# Altium footprint library sar20-motor-driver.PcbLib: 18 footprints (part 1 of 2)
Each footprint in its own frame and in the unit in brackets; x right, y up, seen from the top. Pads: shape width x height; smd on the part's side, far side on the other; paste and mask are expansions set on the pad; w line width, h text height; cw(c..) or ccw(c..) is an arc to the next point about the centre after c.
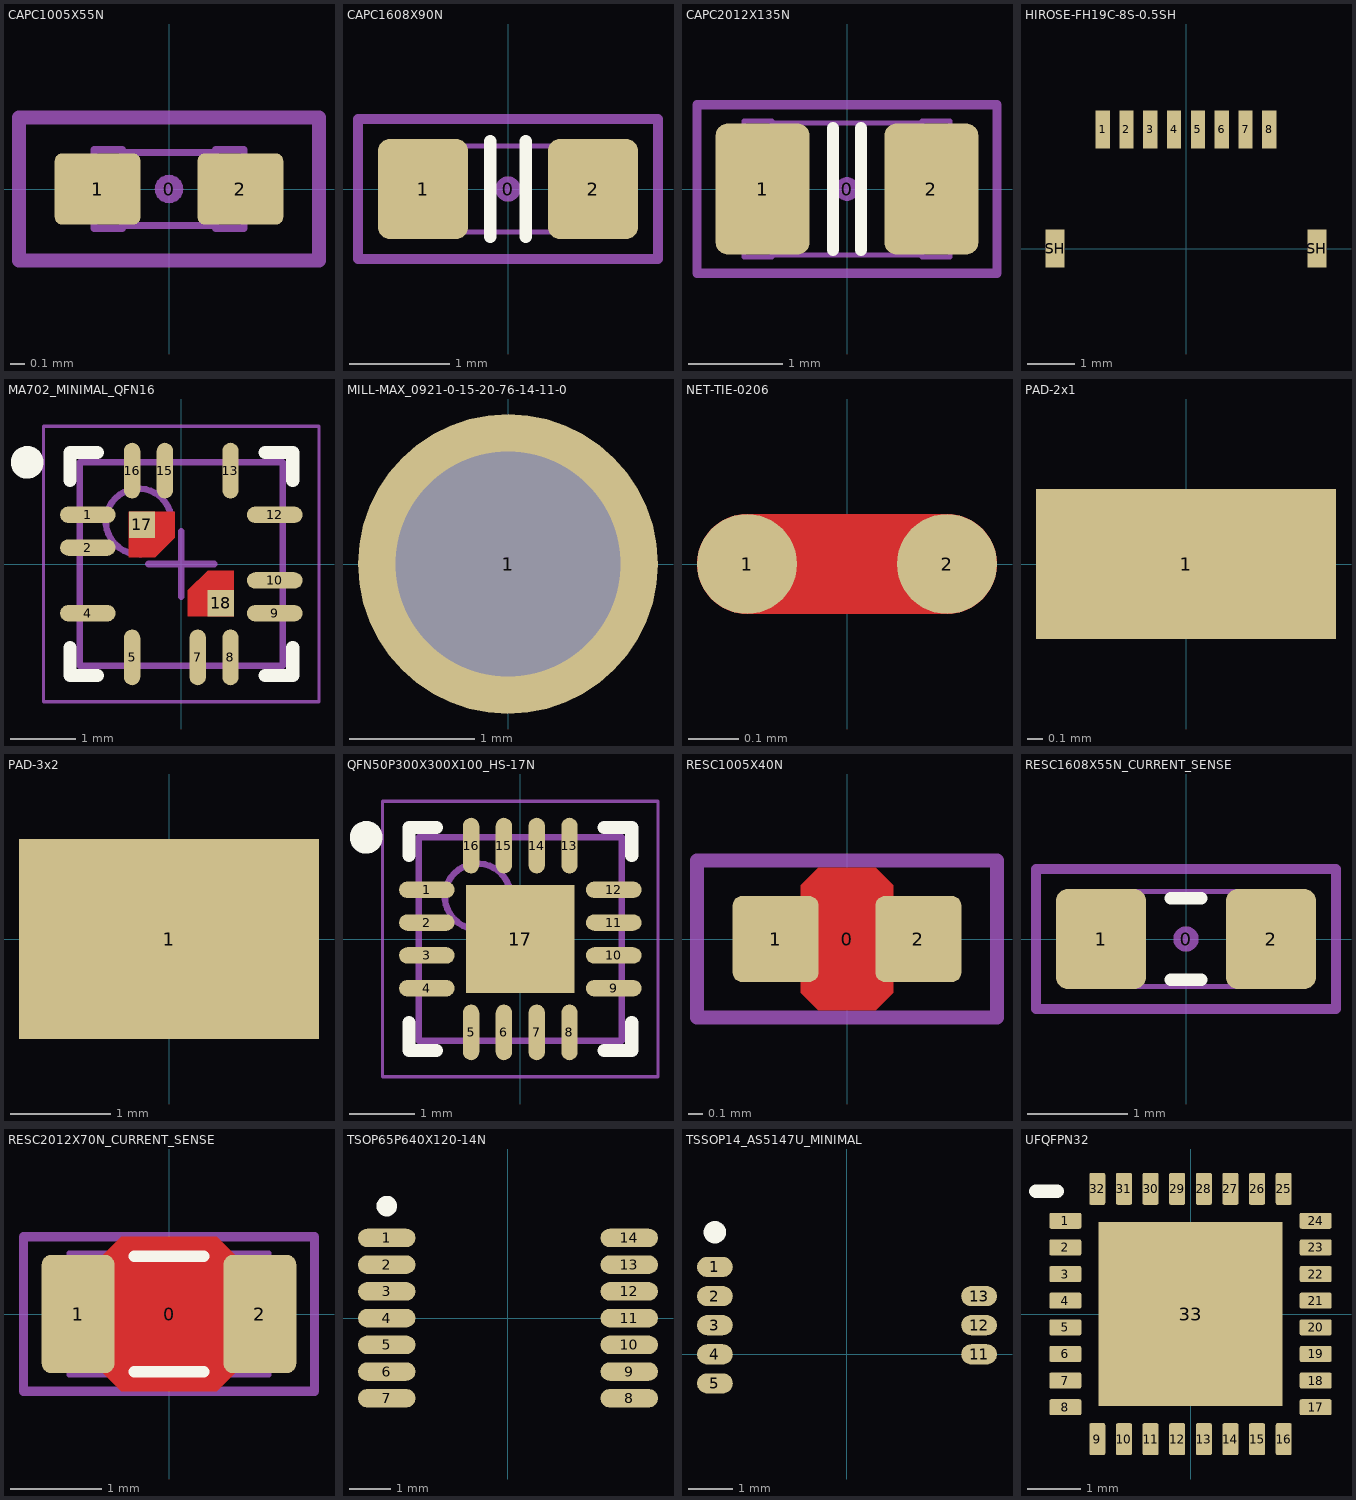
[diagram p0: the footprints below, top view; thin cyan lines are the x and y axes]

## CAPC1005X55N [mm] "Chip Capacitor, Body 1.0x0.5mm, EIA 0402, IPC Medium Density"
height 0.55
pads (3):
  round 0.2 on Mech15: 0(0,0)
  rrect20% 0.6x0.5 smd: 1(-0.5,0) 2(0.5,0)
Top 3D Body:
  lines w0.05: -0.325,-0.255 0.325,-0.255 ; -0.325,0.255 0.325,0.255 ; -0.525,-0.275 -0.325,-0.275 -0.325,0.275 -0.525,0.275 -0.525,-0.275 ; 0.325,-0.275 0.325,0.275 0.525,0.275 0.525,-0.275 0.325,-0.275
Mechanical 15:
  lines w0.1: -1.05,-0.5 1.05,-0.5 1.05,0.5 -1.05,0.5 -1.05,-0.5
3D body "CAP 0402 (1005 metric).STEP": height 0.55, standoff 0, extent -0.525,-0.275 0.525,0.275

## CAPC1608X90N [mm] "Chip Capacitor, Body 1.6x0.8mm, EIA 0603, IPC Medium Density"
height 0.9
pads (3):
  round 0.254 on Mech15: 0(0,0)
  rrect25% 0.9x1 smd: 1(-0.85,0) 2(0.85,0)
Top Overlay:
  lines w0.127: -0.178,-0.476 -0.178,0.476 ; 0.178,-0.476 0.178,0.476
Top 3D Body:
  lines w0.05: -0.55,-0.43 0.55,-0.43 ; -0.55,0.43 0.55,0.43 ; -0.85,-0.45 -0.55,-0.45 -0.55,0.45 -0.85,0.45 -0.85,-0.45 ; 0.55,-0.45 0.85,-0.45 0.85,0.45 0.55,0.45 0.55,-0.45
Mechanical 15:
  lines w0.1: -1.5,-0.7 1.5,-0.7 1.5,0.7 -1.5,0.7 -1.5,-0.7
3D body "CAP_0603.STEP": height 0.89, standoff -0.01, extent -0.85,-0.45 0.85,0.45

## CAPC2012X135N [mm] "Chip Capacitor, Body 2.0x1.2mm, EIA 0805, IPC Medium Density"
height 1.35
pads (3):
  round 0.254 on Mech15: 0(0,0)
  rrect25% 1x1.4 smd: 1(-0.9,0) 2(0.9,0)
Top Overlay:
  lines w0.127: -0.15,-0.651 -0.15,0.651 ; 0.15,-0.651 0.15,0.651
Top 3D Body:
  lines w0.05: -0.8,-0.705 0.8,-0.705 ; -0.8,0.705 0.8,0.705 ; -1.1,-0.725 -0.8,-0.725 -0.8,0.725 -1.1,0.725 -1.1,-0.725 ; 0.8,-0.725 0.8,0.725 1.1,0.725 1.1,-0.725 0.8,-0.725
Mechanical 15:
  lines w0.1: -1.6,-0.9 1.6,-0.9 1.6,0.9 -1.6,0.9 -1.6,-0.9
3D body "CAP_0805.STEP": height 1.34, standoff -0.01, extent -1.1,-0.725 1.1,0.725

## HIROSE-FH19C-8S-0.5SH [mm]
pads (10):
  rect 0.3x0.8 smd paste+0 mask+0.102: 1(-1.75,2.5) 2(-1.25,2.5) 3(-0.75,2.5) 4(-0.25,2.5) 5(0.25,2.5) 6(0.75,2.5) 7(1.25,2.5) 8(1.75,2.5)
  rect 0.4x0.8 smd paste+0 mask+0.102: SH(-2.75,0) SH(2.75,0)
3D body "hirose_FH19C-8S-0.5SH.step": height 0.9, standoff 0, extent -3,-0.8 3,2.7

## MA702_MINIMAL_QFN16 [mm] "QFN, 16-Leads, Body 3,00x3,00mm, Pitch 0,50mm, Thermal Pad 1,65x1,65mm, IPC Medium Density"
height 1
pads (14):
  oval 0.85x0.25 smd: 1(-1.425,0.75) 2(-1.425,0.25) 4(-1.425,-0.75) 9(1.425,-0.75) 10(1.425,-0.25) 12(1.425,0.75)
  oval 0.25x0.85 smd: 5(-0.75,-1.425) 7(0.25,-1.425) 8(0.75,-1.425) 13(0.75,1.425) 15(-0.25,1.425) 16(-0.75,1.425)
  rect 0.4x0.4 smd paste+0 mask+0: 17(-0.6,0.6) 18(0.6,-0.6)
Top Layer:
  region: -0.8,0.8 -0.1,0.8 -0.1,0.4 -0.4,0.1 -0.8,0.1
  region: 0.8,-0.8 0.8,-0.1 0.4,-0.1 0.1,-0.4 0.1,-0.8
Top Overlay:
  circle w0.25: c-2.35,1.55 r0.125
  lines w0.2: -1.7,-1.275 -1.7,-1.7 -1.275,-1.7 ; -1.7,1.275 -1.7,1.7 -1.275,1.7 ; 1.275,-1.7 1.7,-1.7 1.7,-1.275 ; 1.275,1.7 1.7,1.7 1.7,1.275
Top 3D Body:
  circle w0.1: c-0.65,0.65 r0.5
  lines w0.1: -1.55,-1.55 -1.55,1.55 1.55,1.55 1.55,-1.55 -1.55,-1.55
Mechanical 15:
  lines w0.05: -2.1,-2.1 -2.1,2.1 2.1,2.1 2.1,-2.1 -2.1,-2.1
  lines w0.1: -0.5,0 0.5,0 ; 0,-0.5 0,0.5
3D body "QFN50P300X300X100_HS-17N.step": height 1, standoff 0, extent -1.551,-1.551 1.551,1.551

## MILL-MAX_0921-0-15-20-76-14-11-0 [mm]
pads (1):
  round 2.4 hole 1.8 paste+0 mask+0.102: 1(0,0)
3D body "mill-max-0921-0-15-20-76-14-11-0.step": height 1.77, standoff -2.58, extent -0.99,-0.99 0.992,0.991

## NET-TIE-0206 [mm]
pads (2):
  round 0.2 smd paste+0 mask+0.102: 1(-0.2,0) 2(0.2,0)
Top Layer:
  lines w0.2: -0.2,0 0.2,0

## PAD-2x1 [mm]
pads (1):
  rect 2x1 smd paste+0 mask+0.102: 1(0,0)

## PAD-3x2 [mm]
pads (1):
  rect 3x2 smd paste+0 mask+0.102: 1(0,0)

## QFN50P300X300X100_HS-17N [mm] "QFN, 16-Leads, Body 3,00x3,00mm, Pitch 0,50mm, Thermal Pad 1,65x1,65mm, IPC Medium Density"
height 1
pads (17):
  oval 0.85x0.25 smd: 1(-1.425,0.75) 2(-1.425,0.25) 3(-1.425,-0.25) 4(-1.425,-0.75) 9(1.425,-0.75) 10(1.425,-0.25) 11(1.425,0.25) 12(1.425,0.75)
  oval 0.25x0.85 smd: 5(-0.75,-1.425) 6(-0.25,-1.425) 7(0.25,-1.425) 8(0.75,-1.425) 13(0.75,1.425) 14(0.25,1.425) 15(-0.25,1.425) 16(-0.75,1.425)
  rect 1.65x1.65 smd: 17(0,0)
Top Overlay:
  circle w0.25: c-2.35,1.55 r0.125
  lines w0.2: -1.7,-1.275 -1.7,-1.7 -1.275,-1.7 ; -1.7,1.275 -1.7,1.7 -1.275,1.7 ; 1.275,-1.7 1.7,-1.7 1.7,-1.275 ; 1.275,1.7 1.7,1.7 1.7,1.275
Top 3D Body:
  circle w0.1: c-0.65,0.65 r0.5
  lines w0.1: -1.55,-1.55 -1.55,1.55 1.55,1.55 1.55,-1.55 -1.55,-1.55
Mechanical 15:
  lines w0.05: -2.1,-2.1 -2.1,2.1 2.1,2.1 2.1,-2.1 -2.1,-2.1
  lines w0.1: -0.5,0 0.5,0 ; 0,-0.5 0,0.5
3D body "QFN50P300X300X100_HS-17N.step": height 1, standoff 0, extent -1.551,-1.551 1.551,1.551

## RESC1005X40N [mm] "Chip Resistor, Body 1.0x0.5mm, EIA 0402, IPC Medium Density"
height 0.4
pads (3):
  round 0.2 on Mech15: 0(0,0)
  rrect20% 0.6x0.6 smd: 1(-0.5,0) 2(0.5,0)
Top Layer:
  pour cut-out: -0.325,0.375 -0.2,0.5 0.2,0.5 0.325,0.375 0.325,-0.375 0.2,-0.5 -0.2,-0.5 -0.325,-0.375
Top 3D Body:
  lines w0.05: 0.225,-0.274 -0.225,-0.274 0.225,-0.274 ; -0.525,-0.275 -0.525,0.275 -0.225,0.275 -0.225,-0.275 -0.525,-0.275 ; -0.225,0.274 0.225,0.274 -0.225,0.274 ; 0.225,-0.275 0.525,-0.275 0.525,0.275 0.225,0.275 0.225,-0.275
Mechanical 15:
  lines w0.1: -1.05,-0.55 -1.05,0.55 1.05,0.55 1.05,-0.55 -1.05,-0.55
3D body "RES 0402 (1005 metric).STEP": height 0.4, standoff 0, extent -0.525,-0.275 0.525,0.275

## RESC1608X55N_CURRENT_SENSE [mm] "Chip Resistor, Body 1.6x0.8mm, EIA 0603, IPC Medium Density"
height 0.55
pads (3):
  round 0.254 on Mech15: 0(0,0)
  rrect25% 0.9x1 smd: 1(-0.85,0) 2(0.85,0)
Top Overlay:
  lines w0.127: -0.152,-0.406 0.152,-0.406 ; -0.152,0.406 0.152,0.406
Top 3D Body:
  lines w0.05: -0.875,-0.475 -0.875,0.475 -0.475,0.475 -0.475,-0.475 -0.875,-0.475 ; -0.475,-0.474 0.475,-0.474 -0.475,-0.474 ; -0.475,0.474 0.475,0.474 -0.475,0.474 ; 0.475,-0.475 0.875,-0.475 0.875,0.475 0.475,0.475 0.475,-0.475
Mechanical 15:
  lines w0.1: -1.5,-0.7 1.5,-0.7 1.5,0.7 -1.5,0.7 -1.5,-0.7
3D body "RES 0603 (1608 metric).STEP": height 0.54, standoff -0.01, extent -0.875,-0.475 0.875,0.475

## RESC2012X70N_CURRENT_SENSE [mm] "Chip Resistor, Body 2.0x1.2mm, EIA 0805, IPC Medium Density"
height 0.7
pads (3):
  round 0.254 on Mech15: 0(0,0)
  rrect25% 0.8x1.3 smd: 1(-1,0) 2(1,0)
Top Layer:
  pour cut-out: -0.725,0.65 -0.525,0.85 0.525,0.85 0.725,0.65 0.725,-0.65 0.525,-0.85 -0.525,-0.85 -0.725,-0.65
Top Overlay:
  lines w0.127: -0.381,-0.635 0.381,-0.635 ; -0.381,0.635 0.381,0.635
Top 3D Body:
  lines w0.05: 0.6,-0.674 -0.6,-0.674 ; -0.6,-0.675 -0.6,0.675 -1.1,0.675 -1.1,-0.675 -0.6,-0.675 ; -0.6,-0.674 0.6,-0.674 ; 0.6,-0.675 0.6,0.675 ; 0.6,-0.675 1.1,-0.675 1.1,0.675 0.6,0.675 ; 0.6,0.674 -0.6,0.674 0.6,0.674
Mechanical 15:
  lines w0.1: -1.6,-0.85 1.6,-0.85 1.6,0.85 -1.6,0.85 -1.6,-0.85
3D body "RES 0805 (2012 metric).STEP": height 0.69, standoff -0.01, extent -1.1,-0.675 1.1,0.675

## TSOP65P640X120-14N [mm] "TSOP, 14-Leads, Body 5,00x4,40mm, Pitch 0,65mm, IPC Medium Density"
height 1.2
pads (14):
  oval 1.4x0.45 smd: 1(-2.95,1.95) 2(-2.95,1.3) 3(-2.95,0.65) 4(-2.95,0) 5(-2.95,-0.65) 6(-2.95,-1.3) 7(-2.95,-1.95) 8(2.95,-1.95) 9(2.95,-1.3) 10(2.95,-0.65) 11(2.95,0) 12(2.95,0.65) 13(2.95,1.3) 14(2.95,1.95)
Top Overlay:
  circle w0.25: c-2.95,2.725 r0.125
3D body "TSOP65P640X120-14N.step": height 1.2, standoff 0, extent -3.2,-2.55 3.2,2.55

## TSSOP14_AS5147U_MINIMAL [mm] "TSOP, 14-Leads, Body 5,00x4,40mm, Pitch 0,65mm, IPC Medium Density"
height 1.2
pads (8):
  oval 0.8x0.45 smd: 1(-2.95,1.95) 2(-2.95,1.3) 3(-2.95,0.65) 4(-2.95,0) 5(-2.95,-0.65) 11(2.95,0) 12(2.95,0.65) 13(2.95,1.3)
Top Overlay:
  circle w0.25: c-2.95,2.725 r0.125
3D body "TSOP65P640X120-14N.step": height 1.2, standoff 0, extent -3.2,-2.55 3.2,2.55

## UFQFPN32 [mm]
pads (33):
  rrect20% 0.6x0.3 smd: 1(-2.35,1.75) 2(-2.35,1.25) 3(-2.35,0.75) 4(-2.35,0.25) 5(-2.35,-0.25) 6(-2.35,-0.75) 7(-2.35,-1.25) 8(-2.35,-1.75) 17(2.35,-1.75) 18(2.35,-1.25) 19(2.35,-0.75) 20(2.35,-0.25) 21(2.35,0.25) 22(2.35,0.75) 23(2.35,1.25) 24(2.35,1.75)
  rrect20% 0.3x0.6 smd: 9(-1.75,-2.35) 10(-1.25,-2.35) 11(-0.75,-2.35) 12(-0.25,-2.35) 13(0.25,-2.35) 14(0.75,-2.35) 15(1.25,-2.35) 16(1.75,-2.35) 25(1.75,2.35) 26(1.25,2.35) 27(0.75,2.35) 28(0.25,2.35) 29(-0.25,2.35) 30(-0.75,2.35) 31(-1.25,2.35) 32(-1.75,2.35)
  rect 3.45x3.45 smd: 33(0,0)
Top Overlay:
  lines w0.254: -2.9,2.3 -2.5,2.3
3D body "UFQFPN-32.step": height 0.55, standoff 0, extent -2.5,-2.5 2.5,2.5